# EAGLE library part IC_DS3232 (library akita)
RTC
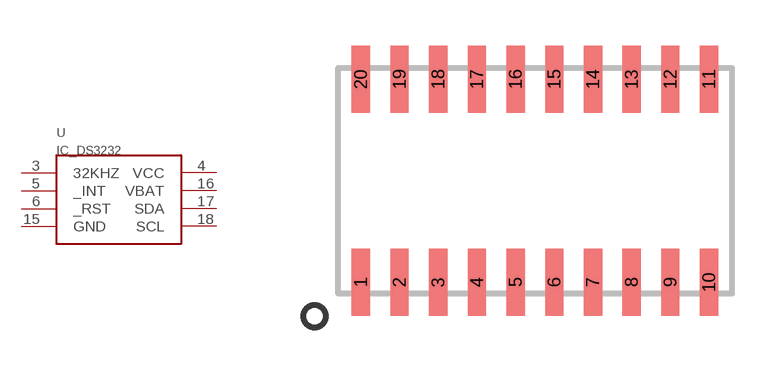
[diagram p5: symbol with the pads of SOIC20; footprint SOIC20]

Designator prefix U

## IC_DS3232  [SOIC20]
3  32KHZ  out
4  VCC  pwr
5  _INT  out
6  _RST  in
15  GND  pwr
16  VBAT  pwr
17  SDA
18  SCL

## Footprint SOIC20 (pad centres in mm)
smd 0.6 x 2.2: 1 -5.715,-3.33; 2 -4.445,-3.33; 3 -3.175,-3.33; 4 -1.905,-3.33; 5 -0.635,-3.33; 6 0.635,-3.33; 7 1.905,-3.33; 8 3.175,-3.33; 9 4.445,-3.33; 10 5.715,-3.33; 11 5.715,3.33; 12 4.445,3.33; 13 3.175,3.33; 14 1.905,3.33; 15 0.635,3.33; 16 -0.635,3.33; 17 -1.905,3.33; 18 -3.175,3.33; 19 -4.445,3.33; 20 -5.715,3.33